# EAGLE library part 74G157 (library kmod-ics)
Single gate mux Similar to the 74*157, but with just a single gate. This is the pinout used by Fairchild/NXP/Toshiba, but the TI parts swap the select (S) and output (Y) pins.
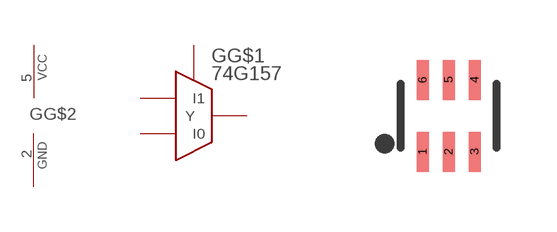
[diagram p10: symbol with the pads of SOT363; footprint SOT363]

Designator prefix G; gates G$1=MUX G$2=PWRN

## 74G157  [SOT363]
1  G$1:I1  in
2  G$2:GND  pwr
3  G$1:I0  in
4  G$1:Y  out
5  G$2:VCC  pwr
6  G$1:S  in

## Footprint SOT363 (pad centres in mm)
SOT363 Copied from somewhere; seemed to work well, but made pads longer anyway.
smd 0.3 x 1: 1 -0.65,-0.9; 2 0,-0.9; 3 0.65,-0.9; 4 0.65,0.9; 5 0,0.9; 6 -0.65,0.9